# EAGLE library part LEONARDOSHIELD (library Jordan Boards)
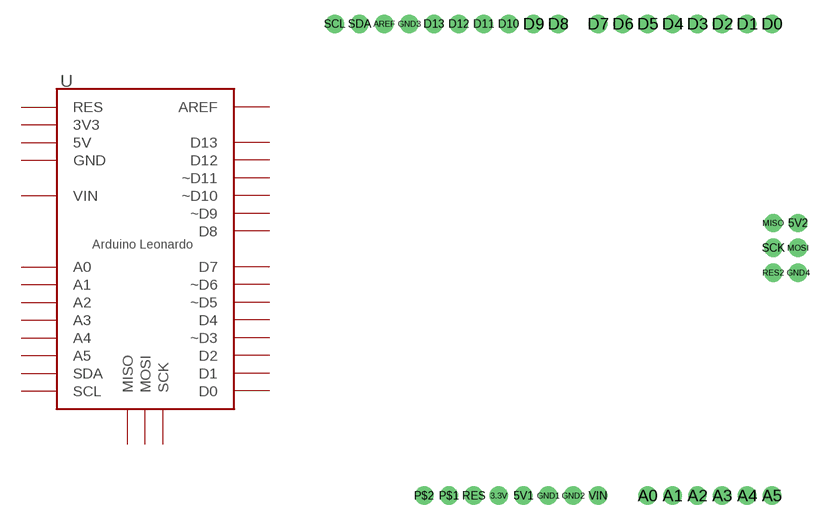
[diagram p3: symbol with the pads of ARDUINOSHIELDR3ISP; footprint ARDUINOSHIELDR3ISP]

Designator prefix -

## LEONARDOSHIELDLEONARDO  [ARDUINOSHIELDR3ISP]
3.3V  3V3
5V1  5V
5V2  5V
A0  A0
A1  A1
A2  A2
A3  A3
A4  A4
A5  A5
AREF  AREF
D0  D0
D1  D1
D2  D2
D3  ~D3
D4  D4
D5  ~D5
D6  ~D6
D7  D7
D8  D8
D9  ~D9
D10  ~D10
D11  ~D11
D12  D12
D13  D13
GND1  GND
GND2  GND
GND3  GND
GND4  GND
MISO  MISO
MOSI  MOSI
RES  RES
RES2  RES
SCK  SCK
SCL  SCL
SDA  SDA
VIN  VIN

## Footprint ARDUINOSHIELDR3ISP (pad centres in mm)
drill 1.016 pad 1.88: 3.3V 35.56,2.54; 5V1 38.1,2.54; 5V2 66.18,30.43; A0 50.8,2.54; A1 53.34,2.54; A2 55.88,2.54; A3 58.42,2.54; A4 60.96,2.54; A5 63.5,2.54; AREF 23.876,50.8; D0 63.5,50.8; D1 60.96,50.8; D2 58.42,50.8; D3 55.88,50.8; D4 53.34,50.8; D5 50.8,50.8; D6 48.26,50.8; D7 45.72,50.8; D8 41.656,50.8; D9 39.116,50.8; D10 36.576,50.8; D11 34.036,50.8; D12 31.496,50.8; D13 28.956,50.8; GND1 40.64,2.54; GND2 43.18,2.54; GND3 26.416,50.8; GND4 66.18,25.35; MISO 63.64,30.43; MOSI 66.18,27.89; P$1 30.48,2.54; P$2 27.94,2.54; RES 33.02,2.54; RES2 63.64,25.35; SCK 63.64,27.89; SCL 18.796,50.8; SDA 21.336,50.8; VIN 45.72,2.54